# Altium schematic symbol library 1715260000.SchLib: 1 symbol
Pins are listed as number, name and electrical type; pins without a type are passive.

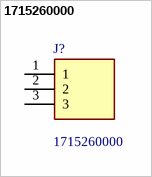
[diagram p0: symbol 1715260000]

## 1715260000
designator J?
Printed circuit board terminals, 5.00 mm, Number of poles: 3, 90, Solder pin length: 3.5 mm, tinned, black, Clamping yoke connection, Clamping range, max. [rated connection]: 2.5 mm, Box; Manufacturer_Name: Weidmuller; Geometry.Height: 13.8mm; Mouser Part Number: 470-1715260000; Mouser Price/Stock: https://www.mouser.co.uk/ProductDetail/Weidmuller/1715260000?qs=WJDKaGZ8K%252B4wKdx%2FbTxz0w%3D%3D; Manufacturer_Part_Number: 1715260000; Datasheet Link: http://catalog.weidmueller.com/createDatasheetForMobile.do?ordernumber=1715260000&scope1=1&scope2=1&localeId=en
footprint 1715260000
pins: 1, 2, 3